# EAGLE library part WAGO2060-1403 (library con-wago-2060)
WAGO Cage Clamp THR-Leiterplattenklemmen mit Betätigungsdrückern, 0,75 mm2 Eindrähtige Leiter anschließen – direkt stecken. Feindrähtige Leiter anschließen und Leiter lösen – durch geringen Druck auf den Betätigungsdrücker, z.B. mit Betätigungswerkzeug 206-860. Klemmen polverlustfrei nebeneinander positionierbar. Rastermaß 4 mm / 0.157 in 0,2 – 0,75 mm2 AWG 24 – 18 160 V/2,5 kV/2 9 A lichtgrau: 1pol. 2060-1401 / 2pol. 2060-1402 / 3pol. 2060-1403 schwarz: 1pol. 2060-1421 / 2pol. 2060-1422 / 3pol. 2060-1423
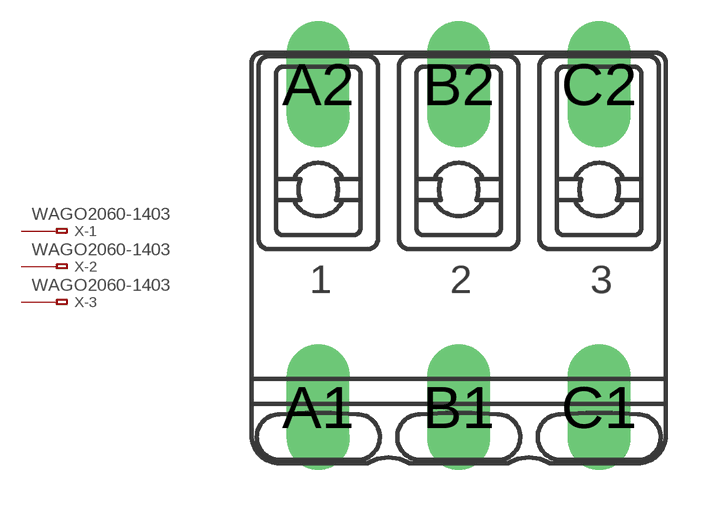
[diagram p1: symbol with the pads of THR_RM4_3; footprint THR_RM4_3]

Designator prefix X; gates -1=KL-1 -2=KL-1 -3=KL-1

## WAGO2060-1403  [THR_RM4_3]
A1  -1:PIN  pas
A2  -1:PIN  pas
B1  -2:PIN  pas
B2  -2:PIN  pas
C1  -3:PIN  pas
C2  -3:PIN  pas

## Footprint THR_RM4_3 (pad centres in mm)
drill 1.2 long: A1 -4,0; A2 -4,9.2; B1 0,0; B2 0,9.2; C1 4,0; C2 4,9.2